# Altium schematic symbol library Inductor.SchLib: 1 symbol
Pins are listed as number, name and electrical type; pins without a type are passive.

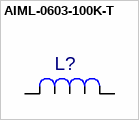
[diagram p0: symbol AIML-0603-100K-T]

## AIML-0603-100K-T
designator L?  (value not drawn)
C: Copyright (C) 2015 Accelerated Designs. All rights reserved; Vendor: Abracon; Built_By: EMA_UL_Team; Manufacturer_Part_Number: AIML-0603-100K-T; Value: AIML-0603-100K-T
footprint AIML-0603
footprint *0603-NO
pins: 1, 2